# EAGLE library part LM2623MM (library LM2623MM)
DC/DC Boost Converter
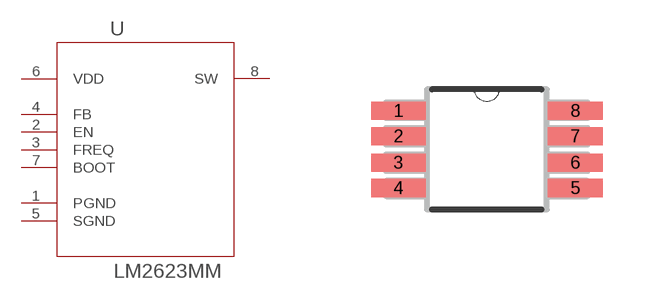
[diagram p0: symbol with the pads of SOP65P490X110-8N; footprint SOP65P490X110-8N]

Designator prefix U

## LM2623MM (Availability: Good; Description: General Purpose, Gated Oscillator Based, DC/DC Boost Converter 8-VSSOP -40 to 85; MF: Texas Instruments; MP: LM2623MM/NOPB; Package: MSOP-8 Texas Instruments; Price: 1.01 USD)  [SOP65P490X110-8N]
1  PGND  pas
2  EN  in
3  FREQ  in
4  FB  in
5  SGND  pas
6  VDD  pwr
7  BOOT  in
8  SW  out

## Footprint SOP65P490X110-8N (pad centres in mm)
smd 1.372 x 0.457: 1 -2.21,0.965; 2 -2.21,0.33; 3 -2.21,-0.33; 4 -2.21,-0.965; 5 2.21,-0.965; 6 2.21,-0.33; 7 2.21,0.33; 8 2.21,0.965